# Altium footprint library VL53L8CXV0GC1.PcbLib: 1 footprints
Each footprint in its own frame and in the unit in brackets; x right, y up, seen from the top. Pads: shape width x height; smd on the part's side, far side on the other; paste and mask are expansions set on the pad; w line width, h text height; cw(c..) or ccw(c..) is an arc to the next point about the centre after c.
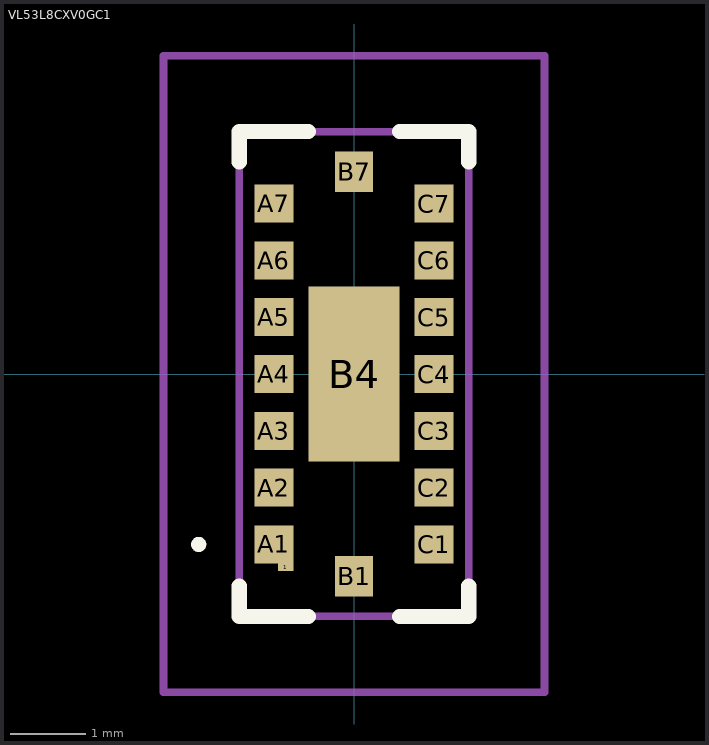
[diagram p0: the footprint, top view; thin cyan lines are the x and y axes]

## VL53L8CXV0GC1 [mm]
pads (18):
  rect 0.2x0.1 smd: 1(-0.9,-2.55)
  rect 0.515x0.5 smd: A1(-1.058,-2.25) A2(-1.058,-1.5) A3(-1.058,-0.75) A4(-1.058,0) A5(-1.058,0.75) A6(-1.058,1.5) A7(-1.058,2.25) C1(1.058,-2.25) C2(1.058,-1.5) C3(1.058,-0.75) C4(1.058,0) C5(1.058,0.75) C6(1.058,1.5) C7(1.058,2.25)
  rect 0.5x0.535 smd: B1(0,-2.668) B7(0,2.668)
  rect 1.2x2.316 smd: B4(0,0)
Top Overlay:
  lines w0.1: -2.1,-2.25 -2.1,-2.25 ; -2.1,-2.25 ccw(c-2.05,-2.25) -2,-2.25 ; -2.1,-2.25 cw(c-2.05,-2.25) -2,-2.25 ; -2,-2.25 -2,-2.25
  lines w0.2: -1.515,-2.8 -1.515,-3.2 -0.6,-3.2 ; -1.515,2.8 -1.515,3.2 -0.6,3.2 ; 0.6,-3.2 1.515,-3.2 1.515,-2.8 ; 0.6,3.2 1.515,3.2 1.515,2.8
Mechanical 15:
  lines w0.1: -1.515,-3.2 1.515,-3.2 1.515,3.2 -1.515,3.2 -1.515,-3.2
Mechanical 20:
  lines w0.1: -2.515,-4.2 2.515,-4.2 2.515,4.2 -2.515,4.2 -2.515,-4.2